# Altium schematic symbol library integrated.SchLib: 88 symbols
Pins are listed as number, name and electrical type; pins without a type are passive.

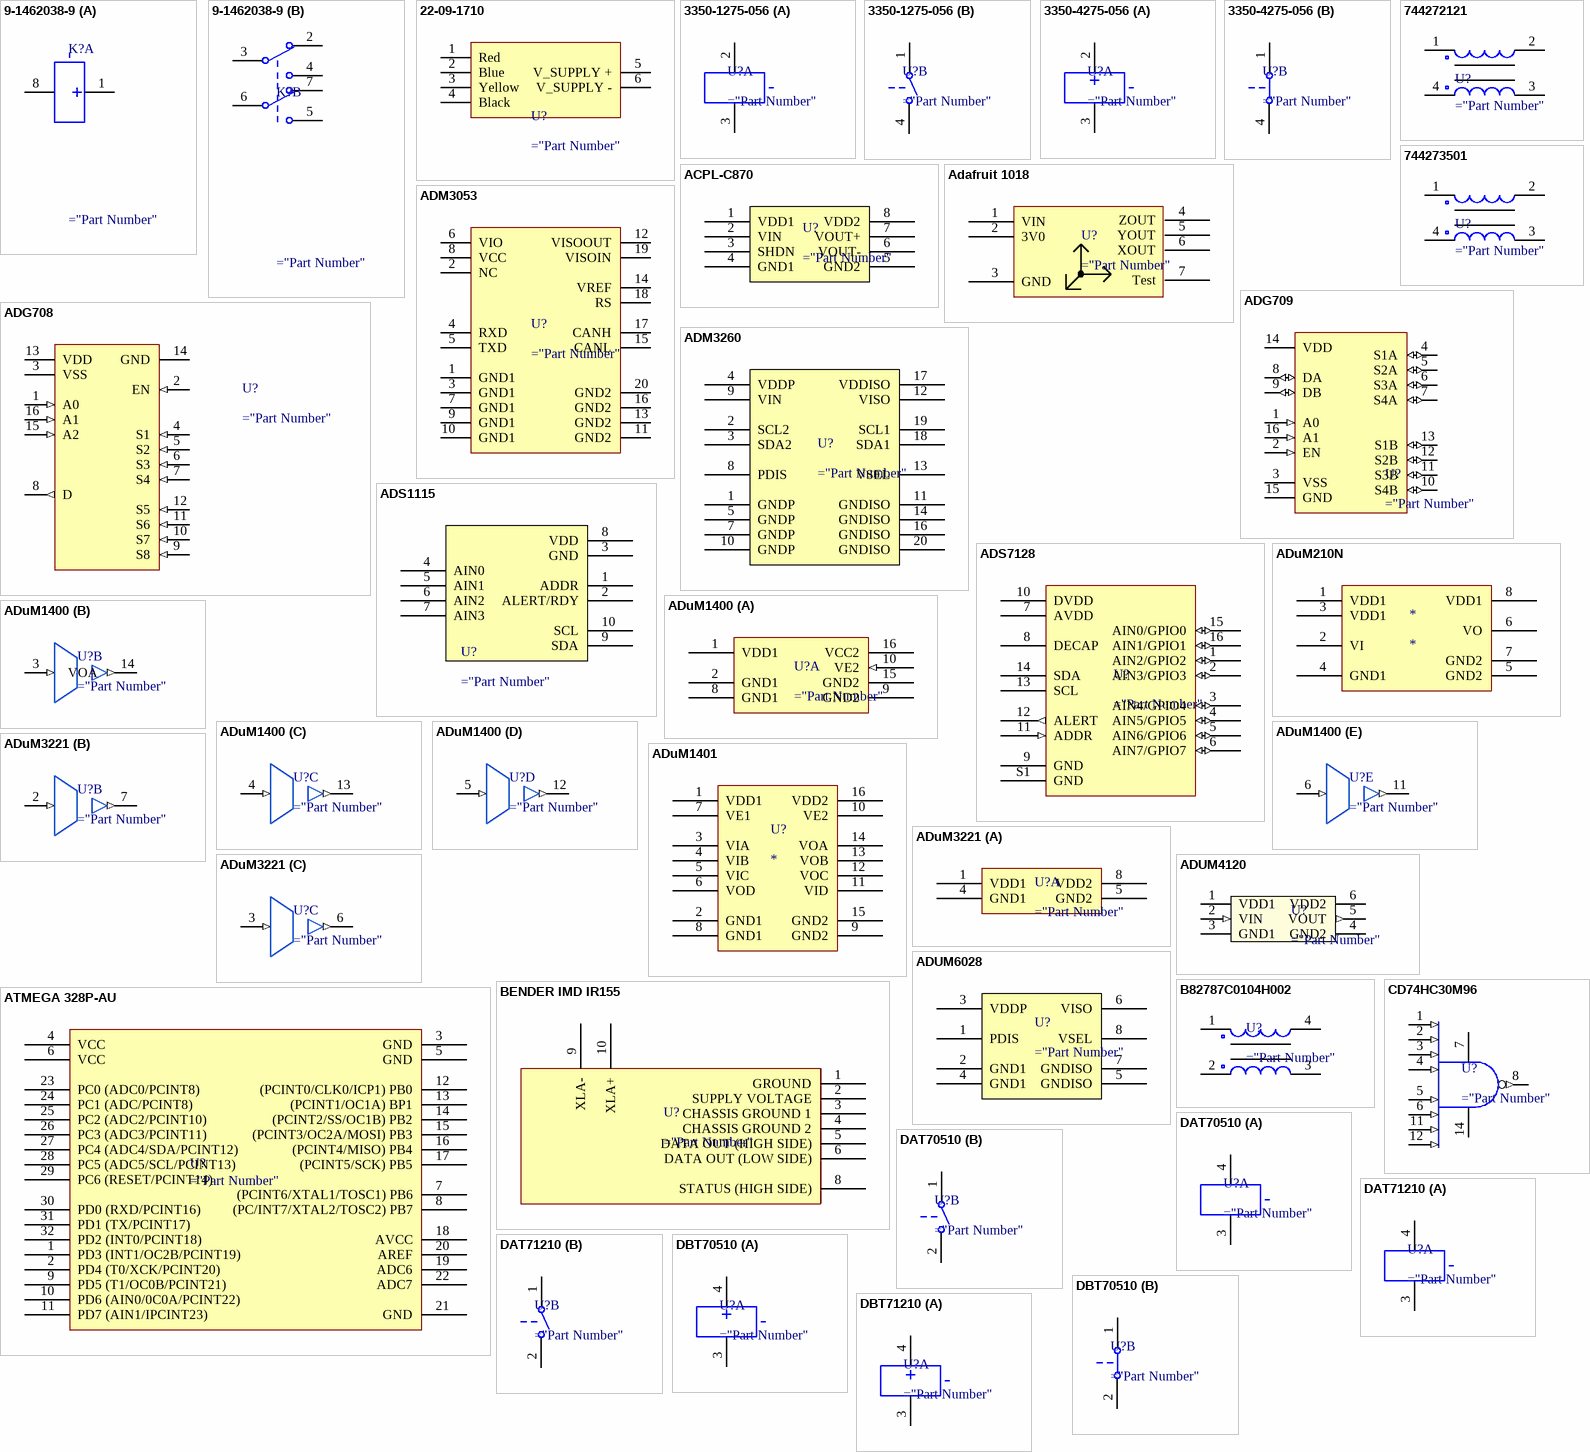
[diagram p0: symbols 9-1462038-9 to DBT71210]

## 9-1462038-9
designator K?
part A pins: 1, 8
part B pins: 2, 3, 4, 5, 6, 7

## 22-09-1710
designator U?
pins: 1 Red (power), 2 Blue (power), 3 Yellow (power), 4 Black (power), 5 V_SUPPLY + (power), 6 V_SUPPLY - (power)

## 3350-1275-056
designator U?
part A pins: 2, 3
part B pins: 1, 4

## 3350-4275-056
designator U?
part A pins: 2, 3
part B pins: 1, 4

## 744272121
designator U?
footprint INDC3216 (Chip Inductor, Body 3.2x1.6mm, IPC High Density)
footprint INDC4532 (Chip Inductor, Body 4.5x3.2mm, IPC High Density)
pins: 1, 2, 3 (power), 4

## 744273501
designator U?
footprint INDC3216 (Chip Inductor, Body 3.2x1.6mm, IPC High Density)
footprint INDC4532 (Chip Inductor, Body 4.5x3.2mm, IPC High Density)
pins: 1, 2, 3 (power), 4

## ACPL-C870
designator U?
pins: 1 VDD1, 2 VIN, 3 SHDN, 4 GND1, 5 GND2, 6 VOUT-, 7 VOUT+, 8 VDD2

## Adafruit 1018
designator U?
pins: 1 VIN, 2 3V0, 3 GND, 4 ZOUT, 5 YOUT, 6 XOUT, 7 Test

## ADG708
designator U?
footprint AD 16-TSSOP
pins: 1 A0 (in), 2 EN (in), 3 VSS (power), 4 S1 (in), 5 S2 (in), 6 S3 (in), 7 S4 (in), 8 D (out), 9 S8 (in), 10 S7 (in), 11 S6 (in), 12 S5 (in), 13 VDD (power), 14 GND (power), 15 A2 (in), 16 A1 (in)

## ADG709
designator U?
pins: 1 A0 (in) "Serial Data Input", 2 EN (in) "Serial Data Input", 3 VSS (power) "Serial Data Input", 4 S1A (io) "Serial Data Input", 5 S2A (io) "Serial Data Input", 6 S3A (io) "Serial Data Input", 7 S4A (io) "Serial Data Input", 8 DA (io) "Serial Data Input", 9 DB (io) "Serial Data Input", 10 S4B (io) "Serial Data Input", 11 S3B (io) "Serial Data Input", 12 S2B (io) "Serial Data Input", 13 S1B (io) "Serial Data Input", 14 VDD (power) "Serial Data Input", 15 GND (power) "Serial Data Input", 16 A1 (in) "Serial Data Input"

## ADM3053
designator U?
pins: 1 GND1, 2 NC, 3 GND1, 4 RXD, 5 TXD, 6 VIO, 7 GND1, 8 VCC, 9 GND1, 10 GND1, 11 GND2, 12 VISOOUT, 13 GND2, 14 VREF, 15 CANL, 16 GND2, 17 CANH, 18 RS, 19 VISOIN, 20 GND2

## ADM3260
designator U?
pins: 1 GNDP, 2 SCL2, 3 SDA2, 4 VDDP, 5 GNDP, 7 GNDP, 8 PDIS, 9 VIN, 10 GNDP, 11 GNDISO, 12 VISO, 13 VSEL, 14 GNDISO, 16 GNDISO, 17 VDDISO, 18 SDA1, 19 SCL1, 20 GNDISO

## ADS1115
designator U?
pins: 1 ADDR, 2 ALERT/RDY, 3 GND, 4 AIN0, 5 AIN1, 6 AIN2, 7 AIN3, 8 VDD, 9 SDA, 10 SCL

## ADS7128
designator U?
pins: 1 AIN2/GPIO2 (io), 2 AIN3/GPIO3 (io), 3 AIN4/GPIO4 (io), 4 AIN5/GPIO5 (io), 5 AIN6/GPIO6 (io), 6 AIN7/GPIO7 (io), 7 AVDD (power), 8 DECAP (power), 9 GND (power), 10 DVDD (power), 11 ADDR (in), 12 ALERT (out), 13 SCL, 14 SDA, 15 AIN0/GPIO0 (io), 16 AIN1/GPIO1 (io), S1 GND (power)

## ADuM210N
designator *
pins: 1 VDD1, 2 VI, 3 VDD1, 4 GND1, 5 GND2, 6 VO, 7 GND2, 8 VDD1

## ADuM1400
designator U?
part A pins: 1 VDD1 (power) "Output", 2 GND1 (power) "Output", 8 GND1 (power) "Output", 9 GND2 (power) "Output", 10 VE2 (in) "Output", 15 GND2 (power) "Output", 16 VCC2 (power) "Output"
part B pins: 3 VIA (in) "Output", 14 VOA (out) "Output"
part C pins: 4 VIB (in) "Output", 13 VOB (out) "Output"
part D pins: 5 VIC (in) "Output", 12 VOC (out) "Output"
part E pins: 6 VID (in) "Output", 11 VOD (out) "Output"

## ADuM1401
designator U?
pins: 1 VDD1, 2 GND1, 3 VIA, 4 VIB, 5 VIC, 6 VOD, 7 VE1, 8 GND1, 9 GND2, 10 VE2, 11 VID, 12 VOC, 13 VOB, 14 VOA, 15 GND2, 16 VDD2

## ADuM3221
designator U?
part A pins: 1 VDD1 "Output", 4 GND1 "Output", 5 GND2 "Output", 8 VDD2 "Output"
part B pins: 2 VIA (in) "Output", 7 VOA (out) "Output"
part C pins: 3 VIA (in) "Output", 6 VOA (out) "Output"

## ADUM4120
designator U?
pins: 1 VDD1 (power), 2 VIN (in), 3 GND1 (power), 4 GND2 (power), 5 VOUT (out), 6 VDD2 (power)

## ADUM6028
designator U?
pins: 1 PDIS, 2 GND1, 3 VDDP, 4 GND1, 5 GNDISO, 6 VISO, 7 GNDISO, 8 VSEL

## ATMEGA 328P-AU
designator U?
pins: 1 PD3 (INT1/OC2B/PCINT19) "(PCINT19/OC2B/INT1) PD3", 2 PD4 (T0/XCK/PCINT20) "(PCINT20/XCK/T0) PD4", 3 GND, 4 VCC, 5 GND, 6 VCC, 7 (PCINT6/XTAL1/TOSC1) PB6, 8 (PC/INT7/XTAL2/TOSC2) PB7, 9 PD5 (T1/OC0B/PCINT21) "(PCINT21/OC0B/T1) PD5", 10 PD6 (AIN0/0C0A/PCINT22) "(PCINT22/OC0A/AIN0) PD6", 11 PD7 (AIN1/IPCINT23) "(PCINT23/AIN1) PD7", 12 (PCINT0/CLK0/ICP1) PB0, 13 (PCINT1/OC1A) BP1, 14 (PCINT2/SS/OC1B) PB2, 15 (PCINT3/OC2A/MOSI) PB3, 16 (PCINT4/MISO) PB4, 17 (PCINT5/SCK) PB5 "PB5 (SCK/PCINT5)", 18 AVCC, 19 ADC6, 20 AREF, 21 GND, 22 ADC7, 23 PC0 (ADC0/PCINT8), 24 PC1 (ADC/PCINT8), 25 PC2 (ADC2/PCINT10), 26 PC3 (ADC3/PCINT11), 27 PC4 (ADC4/SDA/PCINT12), 28 PC5 (ADC5/SCL/PCINT13), 29 PC6 (RESET/PCINT14), 30 PD0 (RXD/PCINT16), 31 PD1 (TX/PCINT17), 32 PD2 (INT0/PCINT18)

## B82787C0104H002
designator U?
pins: 1, 2, 3 (power), 4

## BENDER IMD IR155
designator U?
pins: 1 GROUND "Output", 2 SUPPLY VOLTAGE "Output", 3 CHASSIS GROUND 1 "Output", 4 CHASSIS GROUND 2 "Output", 5 DATA OUT (HIGH SIDE) "Output", 6 DATA OUT (LOW SIDE) "Output", 8 STATUS (HIGH SIDE) "Output", 9 XLA- "Output", 10 XLA+ "Output"

## CD74HC30M96
designator U?
pins: 1 Input (in), 2 Input (in), 3 Input (in), 4 Input (in), 5 Input (in), 6 Input (in), 7 GND (power) "Serial Data Input", 8 Output (out), 11 Input (in), 12 Input (in), 14 VCC (power) "Serial Data Input"
1 alternate drawing of the same symbol

## DAT70510
designator U?
part A pins: 3, 4
part B pins: 1, 2

## DAT71210
designator U?
part A pins: 3, 4
part B pins: 1, 2

## DBT70510
designator U?
part A pins: 3, 4
part B pins: 1, 2

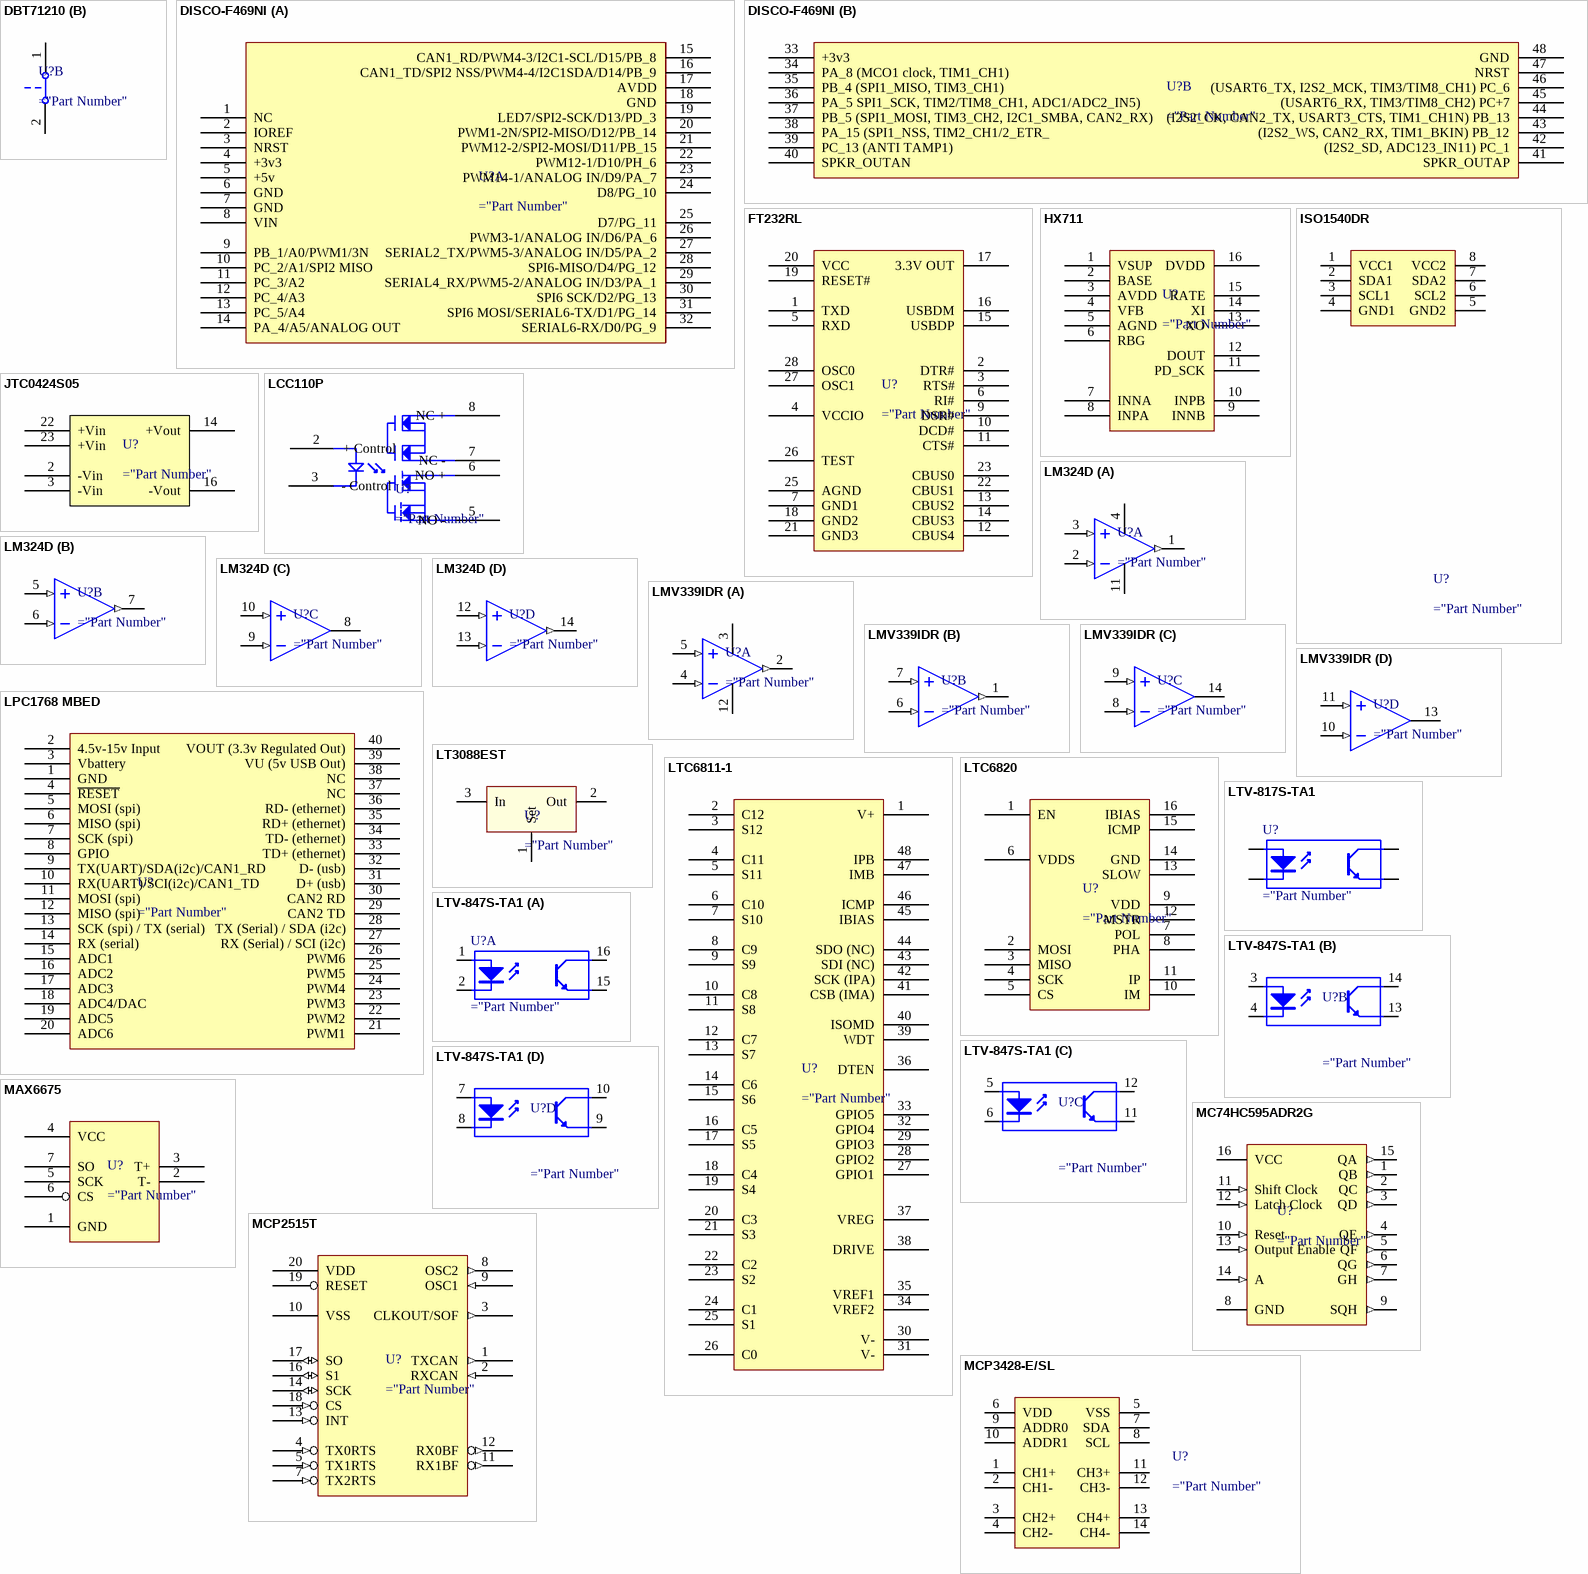
[diagram p1: symbols DBT71210 to MCP3428-E/SL]

## DBT71210
designator U?
part A pins: 3, 4
part B pins: 1, 2

## DISCO-F469NI
designator U?
part A pins: 1 NC, 2 IOREF, 3 NRST, 4 +3v3, 5 +5v, 6 GND, 7 GND, 8 VIN, 9 PB_1/A0/PWM1/3N, 10 PC_2/A1/SPI2 MISO, 11 PC_3/A2, 12 PC_4/A3, 13 PC_5/A4, 14 PA_4/A5/ANALOG OUT, 15 CAN1_RD/PWM4-3/I2C1-SCL/D15/PB_8, 16 CAN1_TD/SPI2 NSS/PWM4-4/I2C1SDA/D14/PB_9, 17 AVDD, 18 GND, 19 LED7/SPI2-SCK/D13/PD_3, 20 PWM1-2N/SPI2-MISO/D12/PB_14, 21 PWM12-2/SPI2-MOSI/D11/PB_15, 22 PWM12-1/D10/PH_6, 23 PWM14-1/ANALOG IN/D9/PA_7, 24 D8/PG_10, 25 D7/PG_11, 26 PWM3-1/ANALOG IN/D6/PA_6, 27 SERIAL2_TX/PWM5-3/ANALOG IN/D5/PA_2, 28 SPI6-MISO/D4/PG_12, 29 SERIAL4_RX/PWM5-2/ANALOG IN/D3/PA_1, 30 SPI6 SCK/D2/PG_13, 31 SPI6 MOSI/SERIAL6-TX/D1/PG_14, 32 SERIAL6-RX/D0/PG_9
part B pins: 33 +3v3, 34 PA_8 (MCO1 clock, TIM1_CH1), 35 PB_4 (SPI1_MISO, TIM3_CH1), 36 PA_5 SPI1_SCK, TIM2/TIM8_CH1, ADC1/ADC2_IN5), 37 PB_5 (SPI1_MOSI, TIM3_CH2, I2C1_SMBA, CAN2_RX), 38 PA_15 (SPI1_NSS, TIM2_CH1/2_ETR_, 39 PC_13 (ANTI TAMP1), 40 SPKR_OUTAN, 41 SPKR_OUTAP, 42 (I2S2_SD, ADC123_IN11) PC_1, 43 (I2S2_WS, CAN2_RX, TIM1_BKIN) PB_12, 44 (I2S2_CK, CAN2_TX, USART3_CTS, TIM1_CH1N) PB_13, 45 (USART6_RX, TIM3/TIM8_CH2) PC+7, 46 (USART6_TX, I2S2_MCK, TIM3/TIM8_CH1) PC_6, 47 NRST, 48 GND

## FT232RL
designator U?
pins: 1 TXD (power) "Output", 2 DTR# (power) "Output", 3 RTS# (power) "Output", 4 VCCIO (power) "Output", 5 RXD (power) "Output", 6 RI# (power) "Output", 7 GND1 (power) "Output", 9 DSR# (power) "Output", 10 DCD# (power) "Output", 11 CTS# (power) "Output", 12 CBUS4 (power) "Output", 13 CBUS2 (power) "Output", 14 CBUS3 (power) "Output", 15 USBDP (power) "Output", 16 USBDM (power) "Output", 17 3.3V OUT (power) "Output", 18 GND2 (power) "Output", 19 RESET# (power) "Output", 20 VCC (power) "Output", 21 GND3 (power) "Output", 22 CBUS1 (power) "Output", 23 CBUS0 (power) "Output", 25 AGND (power) "Output", 26 TEST (power) "Output", 27 OSC1 (power) "Output", 28 OSC0 (power) "Output"

## HX711
designator U?
pins: 1 VSUP (power), 2 BASE (power), 3 AVDD (power), 4 VFB (power), 5 AGND (power), 6 RBG (power), 7 INNA (power), 8 INPA (power), 9 INNB (power), 10 INPB (power), 11 PD_SCK (power), 12 DOUT (power), 13 XO (power), 14 XI (power), 15 RATE (power), 16 DVDD (power)

## ISO1540DR
designator U?
pins: 1 VCC1 (power) "Serial Data Input", 2 SDA1 (power) "Serial Data Input", 3 SCL1 (power) "Serial Data Input", 4 GND1 (power) "Serial Data Input", 5 GND2 (power) "Serial Data Input", 6 SCL2 (power) "Serial Data Input", 7 SDA2 (power) "Serial Data Input", 8 VCC2 (power) "Serial Data Input"

## JTC0424S05
designator U?
pins: 2 -Vin, 3 -Vin, 14 +Vout, 16 -Vout, 22 +Vin, 23 +Vin

## LCC110P
designator U?
pins: 2 + Control, 3 - Control, 5 NO -, 6 NO +, 7 NC -, 8 NC +

## LM324D
designator U?
footprint TI 14-SOIC
part A pins: 1 1OUT (out), 2 1IN+ (in), 3 1IN+ (in), 4 VCC (power) "Serial Data Input", 11 GND (power) "Serial Data Input"
part B pins: 5 2IN+ (in), 6 2IN- (in), 7 2OUT (out)
part C pins: 8 3OUT, 9 3IN- (in), 10 3IN+ (in)
part D pins: 12 4IN+ (in), 13 4IN- (in), 14 4OUT (out)

## LMV339IDR
designator U?
part A pins: 2 OUT A (out), 3 V+ (power) "Serial Data Input", 4 IN A- (in), 5 IN A+ (in), 12 V- (power) "Serial Data Input"
part B pins: 1 OUT B (out), 6 IN B- (in), 7 IN B+ (in)
part C pins: 8 IN C- (in), 9 IN C+ (in), 14 OUT C
part D pins: 10 IN D- (in), 11 IN D+ (in), 13 OUT D

## LPC1768 MBED
designator U?
pins: 1 GND, 2 4.5v-15v Input, 3 Vbattery, 4 ~{RESET}, 5 MOSI (spi), 6 MISO (spi), 7 SCK (spi), 8 GPIO, 9 TX(UART)/SDA(i2c)/CAN1_RD, 10 RX(UART)/SCI(i2c)/CAN1_TD, 11 MOSI (spi), 12 MISO (spi), 13 SCK (spi) / TX (serial), 14 RX (serial), 15 ADC1, 16 ADC2, 17 ADC3, 18 ADC4/DAC, 19 ADC5, 20 ADC6, 21 PWM1, 22 PWM2, 23 PWM3, 24 PWM4, 25 PWM5, 26 PWM6, 27 RX (Serial) / SCI (i2c), 28 TX (Serial) / SDA (i2c), 29 CAN2 TD, 30 CAN2 RD, 31 D+ (usb), 32 D- (usb), 33 TD+ (ethernet), 34 TD- (ethernet), 35 RD+ (ethernet), 36 RD- (ethernet), 37 NC, 38 NC, 39 VU (5v USB Out), 40 VOUT (3.3v Regulated Out)

## LT3088EST
designator U?
pins: 1 Set, 2 Out, 3 In

## LTC6811-1
designator U?
pins: 1 V+ "Output", 2 C12 "Output", 3 S12 "Output", 4 C11 "Output", 5 S11 "Output", 6 C10 "Output", 7 S10 "Output", 8 C9 "Output", 9 S9 "Output", 10 C8 "Output", 11 S8 "Output", 12 C7 "Output", 13 S7 "Output", 14 C6 "Output", 15 S6 "Output", 16 C5 "Output", 17 S5 "Output", 18 C4 "Output", 19 S4 "Output", 20 C3 "Output", 21 S3 "Output", 22 C2 "Output", 23 S2 "Output", 24 C1 "Output", 25 S1 "Output", 26 C0 "Output", 27 GPIO1 "Output", 28 GPIO2 "Output", 29 GPIO3 "Output", 30 V- "Output", 31 V- "Output", 32 GPIO4 "Output", 33 GPIO5 "Output", 34 VREF2 "Output", 35 VREF1 "Output", 36 DTEN "Output", 37 VREG "Output", 38 DRIVE "Output", 39 WDT "Output", 40 ISOMD "Output", 41 CSB (IMA) "Output", 42 SCK (IPA) "Output", 43 SDI (NC) "Output", 44 SDO (NC) "Output", 45 IBIAS "Output", 46 ICMP "Output", 47 IMB "Output", 48 IPB "Output"

## LTC6820
designator U?
pins: 1 EN "Output", 2 MOSI "Output", 3 MISO "Output", 4 SCK "Output", 5 CS "Output", 6 VDDS "Output", 7 POL "Output", 8 PHA "Output", 9 VDD "Output", 10 IM "Output", 11 IP "Output", 12 MSTR "Output", 13 SLOW "Output", 14 GND "Output", 15 ICMP "Output", 16 IBIAS "Output"

## LTV-817S-TA1
designator U?
pins: 1 A "Anode", 2 K "Cathode", 3 E "Emitter", 4 C "Collector"

## LTV-847S-TA1
designator U?
part A pins: 1 A "Anode", 2 K "Cathode", 15 E "Emitter", 16 C "Collector"
part B pins: 3 A "Anode", 4 K "Cathode", 13 E "Emitter", 14 C "Collector"
part C pins: 5 A "Anode", 6 K "Cathode", 11 E "Emitter", 12 C "Collector"
part D pins: 7 A "Anode", 8 K "Cathode", 9 E "Emitter", 10 C "Collector"

## MAX6675
designator U?
pins: 1 GND (power) "Output", 2 T- (power) "Output", 3 T+ (power) "Output", 4 VCC (power) "Output", 5 SCK (power) "Output", 6 CS (power) "Output", 7 SO (power) "Output"

## MC74HC595ADR2G
designator U?
pins: 1 QB (out) "Serial Data Input", 2 QC (out) "Serial Data Input", 3 QD (out) "Serial Data Input", 4 QE (out) "Serial Data Input", 5 QF (out) "Serial Data Input", 6 QG (out) "Serial Data Input", 7 GH (out) "Serial Data Input", 8 GND (power), 9 SQH (out) "Serial Data Output", 10 Reset (in), 11 Shift Clock (in), 12 Latch Clock (in), 13 Output Enable (in), 14 A (in) "Serial Data Input", 15 QA (out) "Serial Data Input", 16 VCC (power)

## MCP2515T
designator U?
pins: 1 TXCAN (out) "Output", 2 RXCAN (in) "Output", 3 CLKOUT/SOF (out) "Output", 4 TX0RTS (in) "Output", 5 TX1RTS (in) "Output", 7 TX2RTS (in) "Output", 8 OSC2 (out) "Output", 9 OSC1 (in) "Output", 10 VSS (power) "Output", 11 RX1BF (out) "Output", 12 RX0BF (out) "Output", 13 INT (in) "Output", 14 SCK (io) "Output", 16 S1 (io) "Output", 17 SO (io) "Output", 18 CS (in) "Output", 19 RESET "Output", 20 VDD (power) "Output"

## MCP3428-E/SL
designator U?
pins: 1 CH1+ (power) "Serial Data Input", 2 CH1- (power) "Serial Data Input", 3 CH2+ (power) "Serial Data Input", 4 CH2- (power) "Serial Data Input", 5 VSS (power) "Serial Data Input", 6 VDD (power) "Serial Data Input", 7 SDA (power) "Serial Data Input", 8 SCL (power) "Serial Data Input", 9 ADDR0 (power) "Serial Data Input", 10 ADDR1 (power) "Serial Data Input", 11 CH3+ (power) "Serial Data Input", 12 CH3- (power) "Serial Data Input", 13 CH4+ (power) "Serial Data Input", 14 CH4- (power) "Serial Data Input"

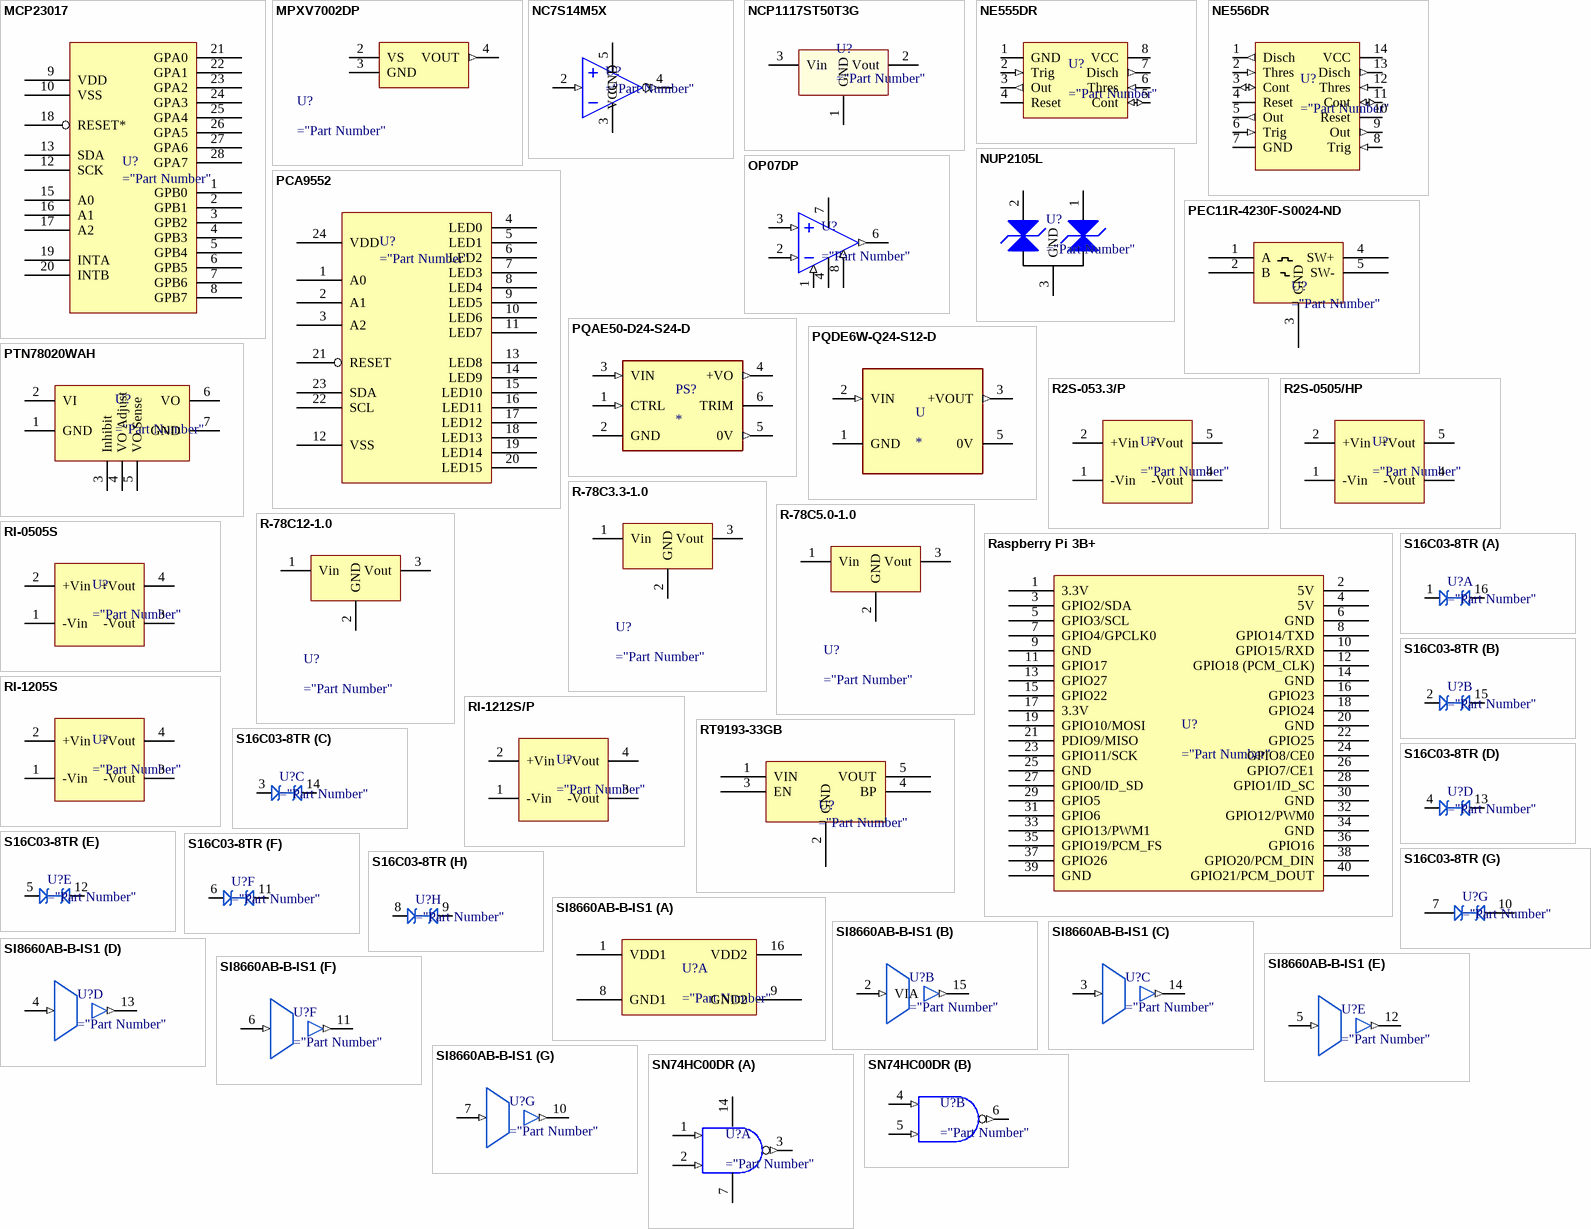
[diagram p2: symbols MCP23017 to SN74HC00DR]

## MCP23017
designator U?
pins: 1 GPB0, 2 GPB1, 3 GPB2, 4 GPB3, 5 GPB4, 6 GPB5, 7 GPB6, 8 GPB7, 9 VDD, 10 VSS, 12 SCK, 13 SDA, 15 A0, 16 A1, 17 A2, 18 RESET*, 19 INTA, 20 INTB, 21 GPA0, 22 GPA1, 23 GPA2, 24 GPA3, 25 GPA4, 26 GPA5, 27 GPA6, 28 GPA7

## MPXV7002DP
designator U?
footprint NXP 8-SOP
pins: 2 VS (power), 3 GND (power), 4 VOUT (out)

## NC7S14M5X
designator U?
pins: 2 In (in), 3 GND (power), 4 Out (out), 5 VCC (power)

## NCP1117ST50T3G
designator U?
pins: 1 GND, 2 Vout, 3 Vin

## NE555DR
designator U?
pins: 1 GND (power), 2 Trig (in), 3 Out (out), 4 Reset, 5 Cont (io), 6 Thres (in), 7 Disch (out), 8 VCC

## NE556DR
designator U?
pins: 1 Disch (out), 2 Thres (in), 3 Cont (io), 4 Reset, 5 Out (out), 6 Trig (in), 7 GND (power), 8 Trig (in), 9 Out (out), 10 Reset, 11 Cont (io), 12 Thres (in), 13 Disch (out), 14 VCC

## NUP2105L
designator U?
footprint ON SOT-23 BJT (NUP2105L)
pins: 1 CAN H, 2 CAN L, 3 GND (power)

## OP07DP
designator U?
pins: 1 OFFSET N1 (in) "Serial Data Input", 2 IN- (in), 3 IN+ (in), 4 VCC- (power) "Serial Data Input", 6 OUT (out), 7 VCC+ (power) "Serial Data Input", 8 OFFSET N2 (in) "Serial Data Input"

## PCA9552
designator U?
pins: 1 A0, 2 A1, 3 A2, 4 LED0, 5 LED1, 6 LED2, 7 LED3, 8 LED4, 9 LED5, 10 LED6, 11 LED7, 12 VSS, 13 LED8, 14 LED9, 15 LED10, 16 LED11, 17 LED12, 18 LED13, 19 LED14, 20 LED15, 21 RESET, 22 SCL, 23 SDA, 24 VDD

## PEC11R-4230F-S0024-ND
designator U?
pins: 1 A (power) "Output", 2 B (power) "Output", 3 GND (power) "Output", 4 SW+ (power) "Output", 5 SW- (power) "Output"

## PQAE50-D24-S24-D
designator PS?
MP: PQAE50-D24-S24-D; MF: {'manufacturer': u'CUI'}; Price: None; Availability: Unavailable; Package: None; Value: *
footprint CONV_PQAE50-D24-S24-D
pins: 1 CTRL (in), 2 GND (power), 3 VIN (in), 4 +VO (out), 5 0V (out), 6 TRIM

## PQDE6W-Q24-S12-D
designator U
MP: PQDE6W-Q24-S12-D; MF: {'manufacturer': u'CUI'}; Package: None; Value: *; Price: None; Availability: Unavailable
footprint CONV_PQDE6W-Q24-S12-D
pins: 1 GND (power), 2 VIN (in), 3 +VOUT (out), 5 0V (power)

## PTN78020WAH
designator U?
pins: 1 GND (power) "Serial Data Input", 2 VI (power) "Serial Data Input", 3 Inhibit (power) "Serial Data Input", 4 VO Adjust (power) "Serial Data Input", 5 VO Sense (power) "Serial Data Input", 6 VO (power) "Serial Data Input", 7 GND (power) "Serial Data Input"

## R2S-053.3/P
designator U?
pins: 1 -Vin (power), 2 +Vin (power), 4 -Vout (power), 5 +Vout (power)

## R2S-0505/HP
designator U?
pins: 1 -Vin (power), 2 +Vin (power), 4 -Vout (power), 5 +Vout (power)

## R-78C3.3-1.0
designator U?
pins: 1 Vin, 2 GND, 3 Vout

## R-78C5.0-1.0
designator U?
pins: 1 Vin, 2 GND, 3 Vout

## R-78C12-1.0
designator U?
pins: 1 Vin, 2 GND, 3 Vout

## Raspberry Pi 3B+
designator U?
pins: 1 3.3V (power) "Output", 2 5V (power) "Output", 3 GPIO2/SDA (power) "Output", 4 5V (power) "Output", 5 GPIO3/SCL (power) "Output", 6 GND (power) "Output", 7 GPIO4/GPCLK0 (power) "Output", 8 GPIO14/TXD (power) "Output", 9 GND (power) "Output", 10 GPIO15/RXD (power) "Output", 11 GPIO17 (power) "Output", 12 GPIO18 (PCM_CLK) (power) "Output", 13 GPIO27 (power) "Output", 14 GND (power) "Output", 15 GPIO22 (power) "Output", 16 GPIO23 (power) "Output", 17 3.3V (power) "Output", 18 GPIO24 (power) "Output", 19 GPIO10/MOSI (power) "Output", 20 GND (power) "Output", 21 PDIO9/MISO (power) "Output", 22 GPIO25 (power) "Output", 23 GPIO11/SCK (power) "Output", 24 GPIO8/CE0 (power) "Output", 25 GND (power) "Output", 26 GPIO7/CE1 (power) "Output", 27 GPIO0/ID_SD (power) "Output", 28 GPIO1/ID_SC (power) "Output", 29 GPIO5 (power) "Output", 30 GND (power) "Output", 31 GPIO6 (power) "Output", 32 GPIO12/PWM0 (power) "Output", 33 GPIO13/PWM1 (power) "Output", 34 GND (power) "Output", 35 GPIO19/PCM_FS (power) "Output", 36 GPIO16 (power) "Output", 37 GPIO26 (power) "Output", 38 GPIO20/PCM_DIN (power) "Output", 39 GND (power) "Output", 40 GPIO21/PCM_DOUT (power) "Output"

## RI-0505S
designator U?
pins: 1 -Vin (power), 2 +Vin (power), 3 -Vout (power), 4 +Vout (power)

## RI-1205S
designator U?
pins: 1 -Vin (power), 2 +Vin (power), 3 -Vout (power), 4 +Vout (power)

## RI-1212S/P
designator U?
pins: 1 -Vin (power), 2 +Vin (power), 3 -Vout (power), 4 +Vout (power)

## RT9193-33GB
designator U?
pins: 1 VIN, 2 GND, 3 EN, 4 BP, 5 VOUT

## S16C03-8TR
designator U?
part A pins: 1 A, 16 A
part B pins: 2 A, 15 A
part C pins: 3 A, 14 A
part D pins: 4 A, 13 A
part E pins: 5 A, 12 A
part F pins: 6 A, 11 A
part G pins: 7 A, 10 A
part H pins: 8 A, 9 A

## SI8660AB-B-IS1
designator U?
part A pins: 1 VDD1 (power) "Output", 8 GND1 (power) "Output", 9 GND2 (power) "Output", 16 VDD2 (power) "Output"
part B pins: 2 VIA (in) "Output", 15 VOA (out) "Output"
part C pins: 3 VIB (in) "Output", 14 VOB (out) "Output"
part D pins: 4 VIC (in) "Output", 13 VOC (out) "Output"
part E pins: 5 VID (in) "Output", 12 VOD (out) "Output"
part F pins: 6 VID (in) "Output", 11 VOD (out) "Output"
part G pins: 7 VID (in) "Output", 10 VOD (out) "Output"

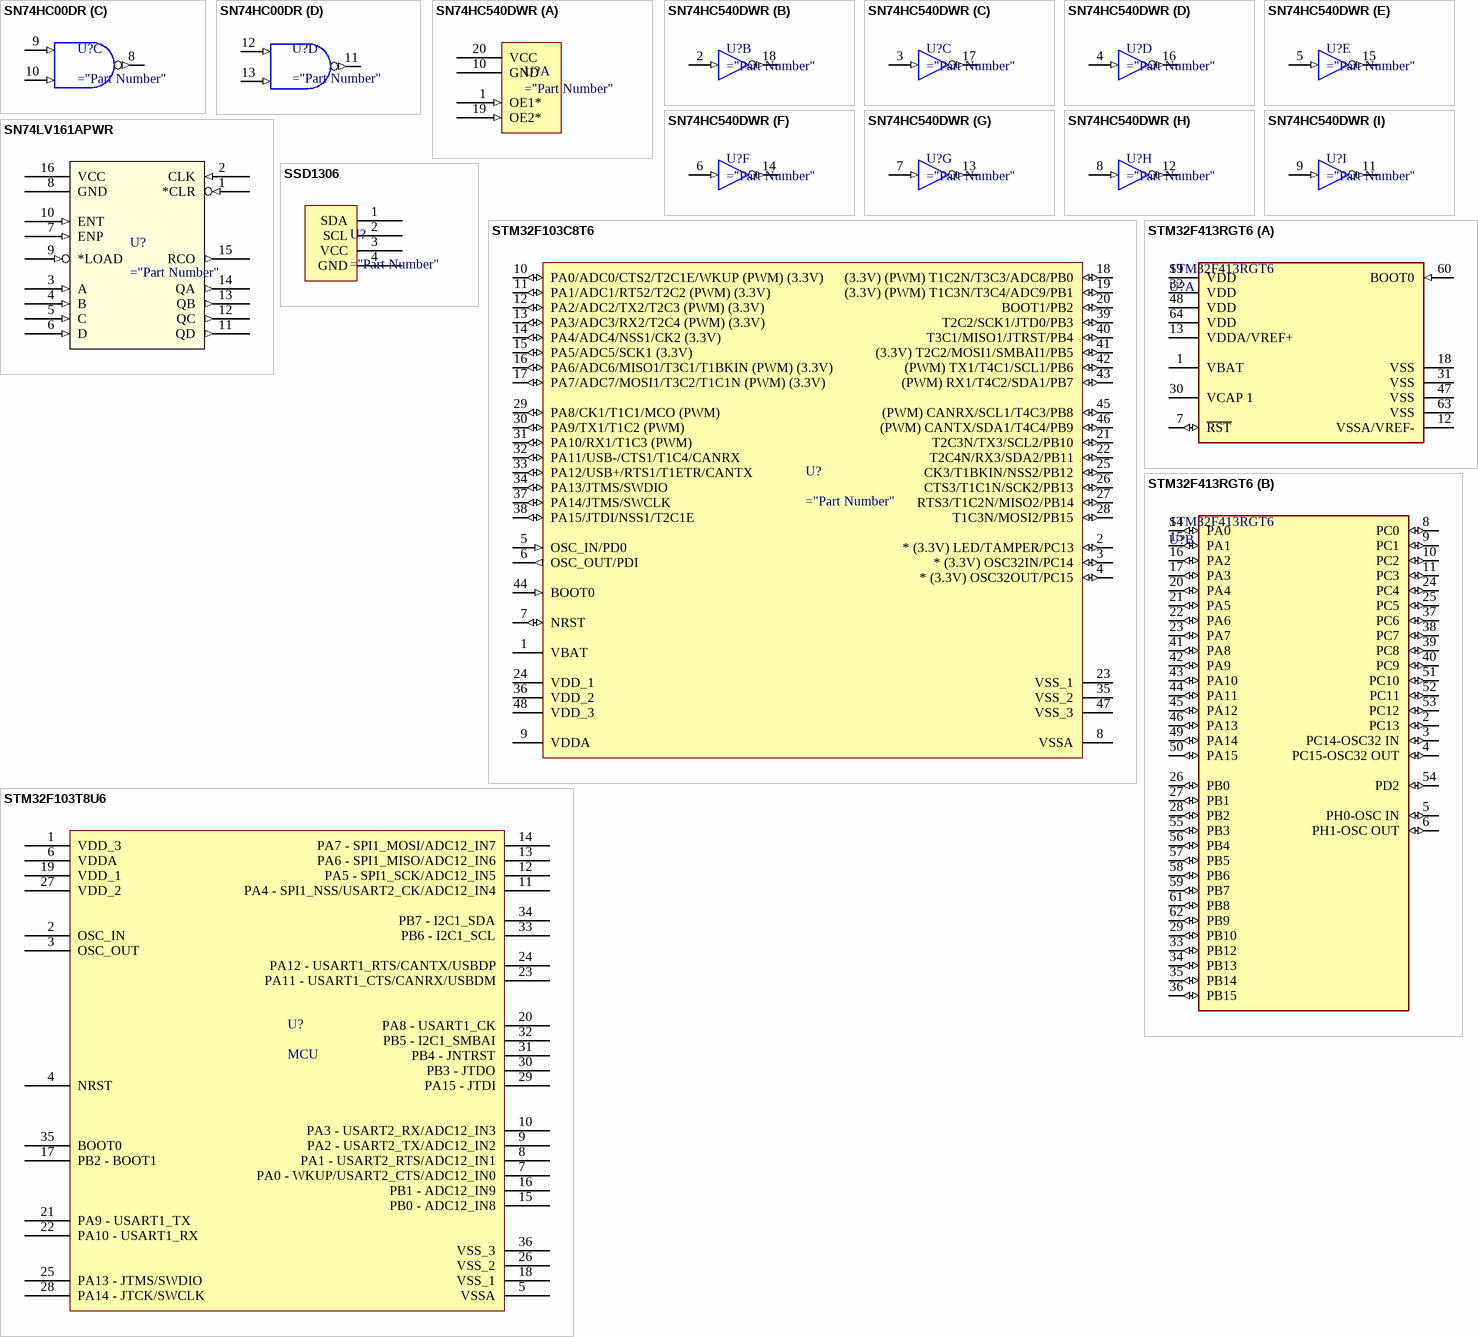
[diagram p3: symbols SN74HC00DR to STM32F413RGT6]

## SN74HC00DR
designator U?
part A pins: 1 1A (in), 2 1B (in), 3 1Y (out), 7 GND (power) "Serial Data Input", 14 VCC (power) "Serial Data Input"
part B pins: 4 2A (in), 5 2B (in), 6 2Y (out)
part C pins: 8 3Y (out), 9 3A (in), 10 3B (in)
part D pins: 11 4Y (out), 12 4A (in), 13 4B (in)

## SN74HC540DWR
designator U?
part A pins: 1 OE1* (in), 10 GND (power), 19 OE2* (in), 20 VCC (power)
part B pins: 2 A1 (in), 18 Y1 (out)
part C pins: 3 A2 (in), 17 Y2 (out)
part D pins: 4 A3 (in), 16 Y3 (out)
part E pins: 5 A4 (in), 15 Y5 (out)
part F pins: 6 A5 (in), 14 Y5 (out)
part G pins: 7 A6 (in), 13 Y6 (out)
part H pins: 8 A7 (in), 12 Y7 (out)
part I pins: 9 A8 (in), 11 Y8 (out)

## SN74LV161APWR
designator U?
pins: 1 *CLR (in), 2 CLK (in), 3 A (in), 4 B (in), 5 C (in), 6 D (in), 7 ENP (in), 8 GND (power), 9 *LOAD (in), 10 ENT (in), 11 QD (out), 12 QC (out), 13 QB (out), 14 QA (out), 15 RCO (out), 16 VCC (power)

## SSD1306
designator U?
pins: 1 SDA, 2 SCL, 3 VCC, 4 GND

## STM32F103C8T6
designator U?
pins: 1 VBAT (power), 2 * (3.3V) LED/TAMPER/PC13 (io), 3 * (3.3V) OSC32IN/PC14 (io), 4 * (3.3V) OSC32OUT/PC15 (io), 5 OSC_IN/PD0 (in), 6 OSC_OUT/PDI (out), 7 NRST (io), 8 VSSA (power), 9 VDDA (power), 10 PA0/ADC0/CTS2/T2C1E/WKUP (PWM) (3.3V) (io), 11 PA1/ADC1/RT52/T2C2 (PWM) (3.3V) (io), 12 PA2/ADC2/TX2/T2C3 (PWM) (3.3V) (io), 13 PA3/ADC3/RX2/T2C4 (PWM) (3.3V) (io), 14 PA4/ADC4/NSS1/CK2 (3.3V) (io), 15 PA5/ADC5/SCK1 (3.3V) (io), 16 PA6/ADC6/MISO1/T3C1/T1BKIN (PWM) (3.3V) (io), 17 PA7/ADC7/MOSI1/T3C2/T1C1N (PWM) (3.3V) (io), 18 (3.3V) (PWM) T1C2N/T3C3/ADC8/PB0 (io), 19 (3.3V) (PWM) T1C3N/T3C4/ADC9/PB1 (io), 20 BOOT1/PB2 (io), 21 T2C3N/TX3/SCL2/PB10 (io), 22 T2C4N/RX3/SDA2/PB11 (io), 23 VSS_1 (power), 24 VDD_1 (power), 25 CK3/T1BKIN/NSS2/PB12 (io), 26 CTS3/T1C1N/SCK2/PB13 (io), 27 RTS3/T1C2N/MISO2/PB14 (io), 28 T1C3N/MOSI2/PB15 (io), 29 PA8/CK1/T1C1/MCO (PWM) (io), 30 PA9/TX1/T1C2 (PWM) (io), 31 PA10/RX1/T1C3 (PWM) (io), 32 PA11/USB-/CTS1/T1C4/CANRX (io), 33 PA12/USB+/RTS1/T1ETR/CANTX (io), 34 PA13/JTMS/SWDIO (io), 35 VSS_2 (power), 36 VDD_2 (power), 37 PA14/JTMS/SWCLK (io), 38 PA15/JTDI/NSS1/T2C1E (io), 39 T2C2/SCK1/JTD0/PB3 (io), 40 T3C1/MISO1/JTRST/PB4 (io), 41 (3.3V) T2C2/MOSI1/SMBAI1/PB5 (io), 42 (PWM) TX1/T4C1/SCL1/PB6 (io), 43 (PWM) RX1/T4C2/SDA1/PB7 (io), 44 BOOT0 (in), 45 (PWM) CANRX/SCL1/T4C3/PB8 (io), 46 (PWM) CANTX/SDA1/T4C4/PB9 (io), 47 VSS_3 (power), 48 VDD_3 (power)

## STM32F103T8U6
designator U?, comment MCU
ARM® Cortex®-M3 STM32F1 Microcontroller IC 32-Bit 72MHz 64KB (64K x 8) FLASH
pins: 1 VDD_3, 2 OSC_IN, 3 OSC_OUT, 4 NRST, 5 VSSA, 6 VDDA, 7 PA0 - WKUP/USART2_CTS/ADC12_IN0, 8 PA1 - USART2_RTS/ADC12_IN1, 9 PA2 - USART2_TX/ADC12_IN2, 10 PA3 - USART2_RX/ADC12_IN3, 11 PA4 - SPI1_NSS/USART2_CK/ADC12_IN4, 12 PA5 - SPI1_SCK/ADC12_IN5, 13 PA6 - SPI1_MISO/ADC12_IN6, 14 PA7 - SPI1_MOSI/ADC12_IN7, 15 PB0 - ADC12_IN8, 16 PB1 - ADC12_IN9, 17 PB2 - BOOT1, 18 VSS_1, 19 VDD_1, 20 PA8 - USART1_CK, 21 PA9 - USART1_TX, 22 PA10 - USART1_RX, 23 PA11 - USART1_CTS/CANRX/USBDM, 24 PA12 - USART1_RTS/CANTX/USBDP, 25 PA13 - JTMS/SWDIO, 26 VSS_2, 27 VDD_2, 28 PA14 - JTCK/SWCLK, 29 PA15 - JTDI, 30 PB3 - JTDO, 31 PB4 - JNTRST, 32 PB5 - I2C1_SMBAI, 33 PB6 - I2C1_SCL, 34 PB7 - I2C1_SDA, 35 BOOT0, 36 VSS_3

## STM32F413RGT6
designator U?
IC MCU 32BIT 1MB FLASH 64LQFP; Manufacturer: STMicroelectronics; Max Supply Voltage: 3.6V; Number Of Uart Channels: 7; Data Bus Width: 32bits; Number Of Pwm Channels: 32; Max Junction Temp: +105°C; Number Of A/D Converters: 1; Core Architecture: ARM Cortex-M4; Number Of Timers/Counters: 15; Min Supply Voltage: 1.7V; Memory Size: 1MBytes; Standoff Height: 0.05mm; Number Of Spi Channels: 5; Number Of Adc Channels: 16; Number Of I2C Channels: 4; Ram Size: 320KBytes; Interface: I2C,SPI,UART,USART,CAN,USB,LIN,IrDA,I2S,Other; Frequency: 100MHz; Number Of I/Os: 50; Nominal Supply Current: 25-180mA; Ambient Temperature Range High: +85°C; Ipc Land Pattern Name: QFP50P1200X1200X160-64; Temperature Range High: +105°C; Lead Free: Yes; Ambient Temperature Range Low: -40°C; Digikey Description: IC MCU 32BIT 1MB FLASH 64LQFP; Device Class L3: Microcontrollers; Temperature: -40°C to +105°C; Temperature Range Low: -40°C; Number Of Cores: 1; ComponentLink2Description: Datasheet; Category: IC; Device Class L1: Integrated Circuits (ICs); Package: LQFP64-5W; Height: 1.6mm; ComponentLink2URL: http://www.st.com/content/ccc/resource/technical/document/datasheet/group3/f6/1d/4a/d9/f9/96/43/2a/DM00282249/files/DM00282249.pdf/jcr:content/translations/en.DM00282249.pdf; Manufacturer Part Number: STM32F413RGT6; RoHS: TRUE; Memory Type: FLASH; Number Of Usb Channels: 1; Device Class L2: Embedded Processors and Controllers; Automotive: No; Octopart: https://octopart.com/stm32f413rgt6-stmicroelectronics-76512522
footprint FP-LQFP64-5W-MFG
part A pins: 1 VBAT (power), 7 ~{RST} (io), 12 VSSA/VREF- (power), 13 VDDA/VREF+ (power), 18 VSS (power), 19 VDD (power), 30 VCAP 1 (power), 31 VSS (power), 32 VDD (power), 47 VSS (power), 48 VDD (power), 60 BOOT0 (in), 63 VSS (power), 64 VDD (power)
part B pins: 2 PC13 (io), 3 PC14-OSC32 IN (io), 4 PC15-OSC32 OUT (io), 5 PH0-OSC IN (io), 6 PH1-OSC OUT (io), 8 PC0 (io), 9 PC1 (io), 10 PC2 (io), 11 PC3 (io), 14 PA0 (io), 15 PA1 (io), 16 PA2 (io), 17 PA3 (io), 20 PA4 (io), 21 PA5 (io), 22 PA6 (io), 23 PA7 (io), 24 PC4 (io), 25 PC5 (io), 26 PB0 (io), 27 PB1 (io), 28 PB2 (io), 29 PB10 (io), 33 PB12 (io), 34 PB13 (io), 35 PB14 (io), 36 PB15 (io), 37 PC6 (io), 38 PC7 (io), 39 PC8 (io), 40 PC9 (io), 41 PA8 (io), 42 PA9 (io), 43 PA10 (io), 44 PA11 (io), 45 PA12 (io), 46 PA13 (io), 49 PA14 (io), 50 PA15 (io), 51 PC10 (io), 52 PC11 (io), 53 PC12 (io), 54 PD2 (io), 55 PB3 (io), 56 PB4 (io), 57 PB5 (io), 58 PB6 (io), 59 PB7 (io), 61 PB8 (io), 62 PB9 (io)

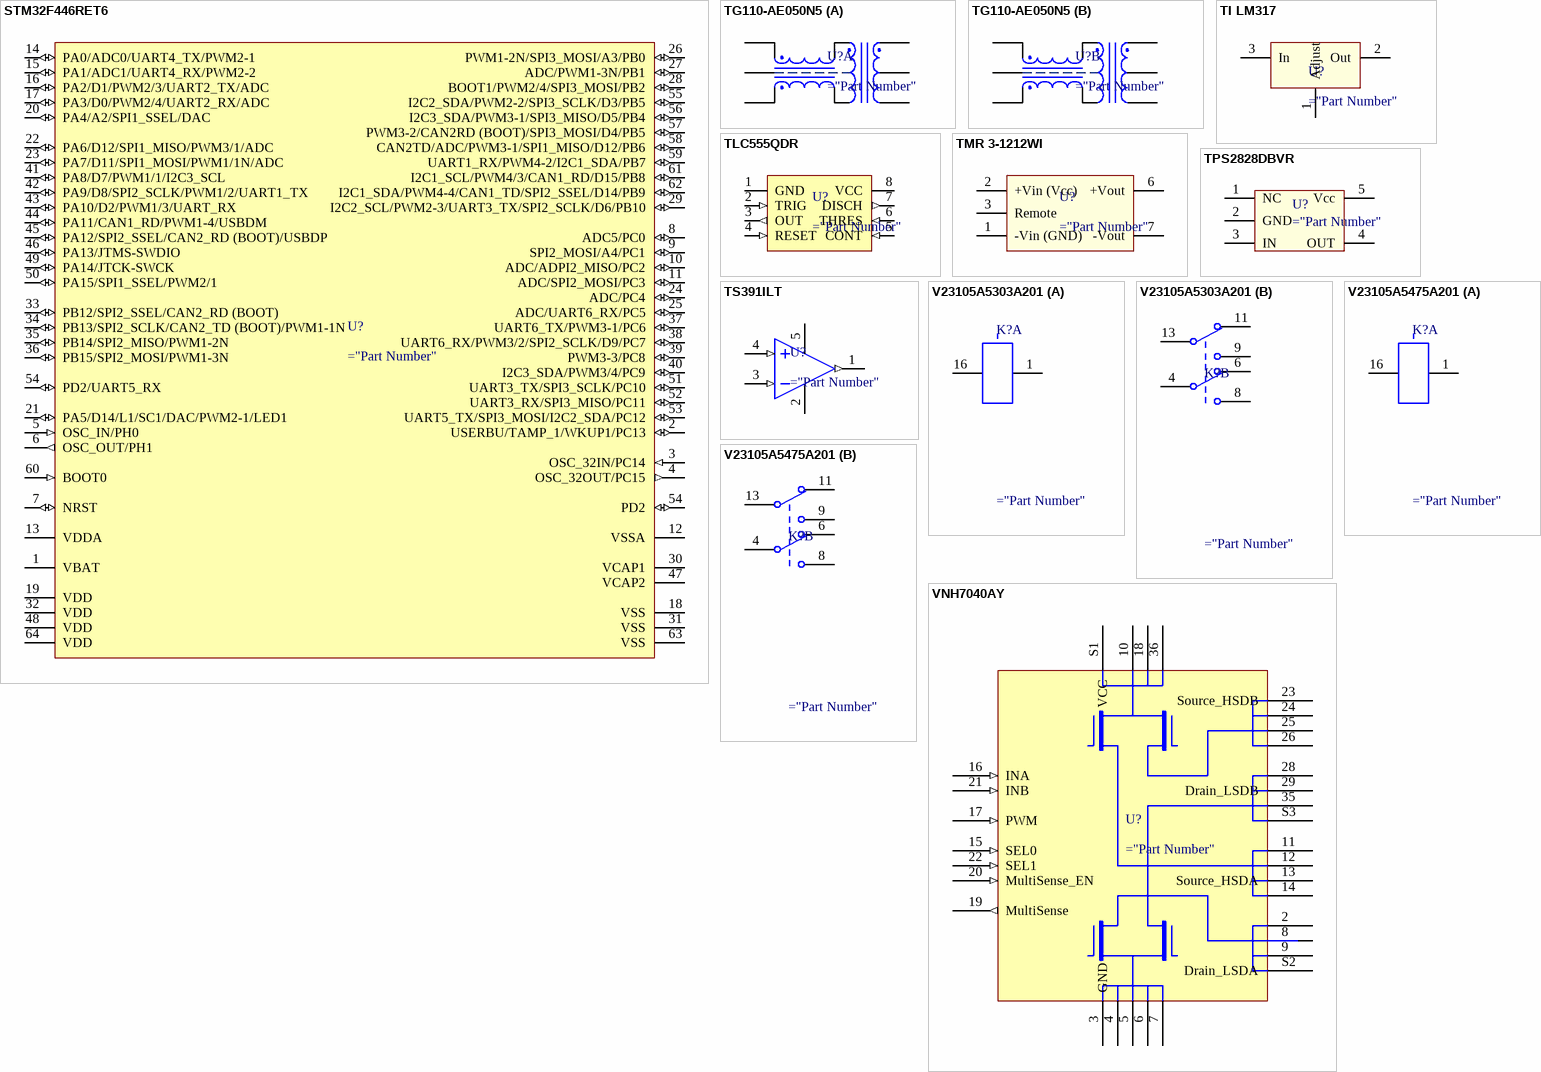
[diagram p4: symbols STM32F446RET6 to VNH7040AY]

## STM32F446RET6
designator U?
pins: 1 VBAT (power), 2 USERBU/TAMP_1/WKUP1/PC13 (io), 3 OSC_32IN/PC14 (in), 4 OSC_32OUT/PC15 (out), 5 OSC_IN/PH0 (in), 6 OSC_OUT/PH1 (out), 7 NRST (io), 8 ADC5/PC0 (io) "Output", 9 SPI2_MOSI/A4/PC1 (io) "Output", 10 ADC/ADPI2_MISO/PC2 (io) "Output", 11 ADC/SPI2_MOSI/PC3 (io) "Output", 12 VSSA (power), 13 VDDA (power), 14 PA0/ADC0/UART4_TX/PWM2-1 (io) "Output", 15 PA1/ADC1/UART4_RX/PWM2-2 (io) "Output", 16 PA2/D1/PWM2/3/UART2_TX/ADC (io) "Output", 17 PA3/D0/PWM2/4/UART2_RX/ADC (io) "Output", 18 VSS (power) "Output", 19 VDD (power) "Output", 20 PA4/A2/SPI1_SSEL/DAC (io) "Output", 21 PA5/D14/L1/SC1/DAC/PWM2-1/LED1 (io) "Output", 22 PA6/D12/SPI1_MISO/PWM3/1/ADC (io) "Output", 23 PA7/D11/SPI1_MOSI/PWM1/1N/ADC (io) "Output", 24 ADC/PC4 (io) "Output", 25 ADC/UART6_RX/PC5 (io) "Output", 26 PWM1-2N/SPI3_MOSI/A3/PB0 (io) "Output", 27 ADC/PWM1-3N/PB1 (io) "Output", 28 BOOT1/PWM2/4/SPI3_MOSI/PB2 (io) "Output", 29 I2C2_SCL/PWM2-3/UART3_TX/SPI2_SCLK/D6/PB10 (io) "Output", 30 VCAP1 (power) "Output", 31 VSS (power), 32 VDD (power), 33 PB12/SPI2_SSEL/CAN2_RD (BOOT) (io) "Output", 34 PB13/SPI2_SCLK/CAN2_TD (BOOT)/PWM1-1N (io) "Output", 35 PB14/SPI2_MISO/PWM1-2N (io) "Output", 36 PB15/SPI2_MOSI/PWM1-3N (io) "Output", 37 UART6_TX/PWM3-1/PC6 (io) "Output", 38 UART6_RX/PWM3/2/SPI2_SCLK/D9/PC7 (io) "Output", 39 PWM3-3/PC8 (io) "Output", 40 I2C3_SDA/PWM3/4/PC9 (io) "Output", 41 PA8/D7/PWM1/1/I2C3_SCL (io) "Output", 42 PA9/D8/SPI2_SCLK/PWM1/2/UART1_TX (io) "Output", 43 PA10/D2/PWM1/3/UART_RX (io) "Output", 44 PA11/CAN1_RD/PWM1-4/USBDM (io) "Output", 45 PA12/SPI2_SSEL/CAN2_RD (BOOT)/USBDP (io) "Output", 46 PA13/JTMS-SWDIO (io) "Output", 47 VCAP2 (power), 48 VDD (power), 49 PA14/JTCK-SWCK (io) "Output", 50 PA15/SPI1_SSEL/PWM2/1 (io) "Output", 51 UART3_TX/SPI3_SCLK/PC10 (io) "Output", 52 UART3_RX/SPI3_MISO/PC11 (io) "Output", 53 UART5_TX/SPI3_MOSI/I2C2_SDA/PC12 (io) "Output", 54 PD2 (io) "Output", 54 PD2/UART5_RX (io) "Output", 55 I2C2_SDA/PWM2-2/SPI3_SCLK/D3/PB5 (io) "Output", 56 I2C3_SDA/PWM3-1/SPI3_MISO/D5/PB4 (io) "Output", 57 PWM3-2/CAN2RD (BOOT)/SPI3_MOSI/D4/PB5 (io) "Output", 58 CAN2TD/ADC/PWM3-1/SPI1_MISO/D12/PB6 (io) "Output", 59 UART1_RX/PWM4-2/I2C1_SDA/PB7 (io) "Output", 60 BOOT0 (in), 61 I2C1_SCL/PWM4/3/CAN1_RD/D15/PB8 (io) "Output", 62 I2C1_SDA/PWM4-4/CAN1_TD/SPI2_SSEL/D14/PB9 (io) "Output", 63 VSS (power), 64 VDD (power)

## TG110-AE050N5
designator U?
part A pins: 1, 2, 3, 14, 15, 16
part B pins: 6, 7, 8, 9, 10, 11

## TI LM317
designator U?
pins: 1 Adjust, 2 Out, 3 In

## TLC555QDR
designator U?
pins: 1 GND, 2 TRIG (in), 3 OUT (out), 4 RESET (in), 5 CONT (in), 6 THRES (in), 7 DISCH (out), 8 VCC (power)

## TMR 3-1212WI
designator U?
pins: 1 -Vin (GND), 2 +Vin (Vcc), 3 Remote, 6 +Vout, 7 -Vout

## TPS2828DBVR
designator U?
pins: 1 NC, 2 GND, 3 IN, 4 OUT, 5 Vcc

## TS391ILT
designator U?
pins: 1 OUT (out), 2 VCC- (power), 3 IN- (in), 4 IIN+ (in), 5 VCC+ (power)

## V23105A5303A201
designator K?
part A pins: 1, 16
part B pins: 4, 6, 8, 9, 11, 13

## V23105A5475A201
designator K?
part A pins: 1, 16
part B pins: 4, 6, 8, 9, 11, 13

## VNH7040AY
designator U?
pins: 2 Drain_LSDA (power), 3 GND (power), 4 GND (power), 5 GND (power), 6 GND (power), 7 GND (power), 8 Drain_LSDA (power), 9 Drain_LSDA (power), 10 VCC (power), 11 Source_HSDA (power), 12 Source_HSDA (power), 13 Source_HSDA (power), 14 Source_HSDA (power), 15 SEL0 (in) "Address the Multisense Multiplexer", 16 INA (in) "Clockwise Input", 17 PWM (in) "PWM Input", 18 VCC (power), 19 MultiSense (out) "MultiSense Output", 20 MultiSense_EN (in) "Enable MultiSense", 21 INB (in) "Counter Clockwise Input", 22 SEL1 (in) "Address the MultiSense Multiplexer", 23 Source_HSDB (power), 24 Source_HSDB (power), 25 Source_HSDB (power), 26 Source_HSDB (power), 28 Drain_LSDB (power) "Slug 1", 29 Drain_LSDB (power) "Slug 1", 35 Drain_LSDB (power) "Slug 1", 36 VCC (power), S1 VCC (power) "Slug 1", S2 Drain_LSDA (power) "Slug 2", S3 Drain_LSDB (power)